# Altium footprint library ISSI SRAM Synchronous SRAM Pipeline.PcbLib: 4 footprints
Each footprint in its own frame and in the unit in brackets; x right, y up, seen from the top. Pads: shape width x height; smd on the part's side, far side on the other; paste and mask are expansions set on the pad; w line width, h text height; cw(c..) or ccw(c..) is an arc to the next point about the centre after c.
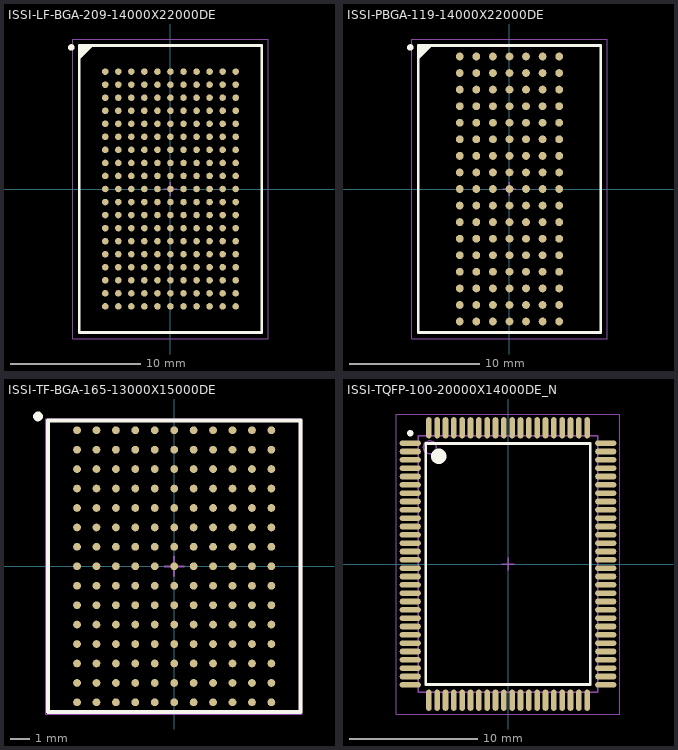
[diagram p0: the footprints below, top view; thin cyan lines are the x and y axes]

## ISSI-LF-BGA-209-14000X22000DE [mm] "BGA, 209-Balls, Body 22x14mm, Pitch 1mm"
height 1.95
pads (209):
  round 0.5 smd: A1(-5,9) A2(-4,9) A3(-3,9) A4(-2,9) A5(-1,9) A6(0,9) A7(1,9) A8(2,9) A9(3,9) A10(4,9) A11(5,9) B1(-5,8) B2(-4,8) B3(-3,8) B4(-2,8) B5(-1,8) B6(0,8) B7(1,8) B8(2,8) B9(3,8) B10(4,8) B11(5,8) C1(-5,7) C2(-4,7) C3(-3,7) C4(-2,7) C5(-1,7) C6(0,7) C7(1,7) C8(2,7) C9(3,7) C10(4,7) C11(5,7) D1(-5,6) D2(-4,6) D3(-3,6) D4(-2,6) D5(-1,6) D6(0,6) D7(1,6) D8(2,6) D9(3,6) D10(4,6) D11(5,6) E1(-5,5) E2(-4,5) E3(-3,5) E4(-2,5) E5(-1,5) E6(0,5) E7(1,5) E8(2,5) E9(3,5) E10(4,5) E11(5,5) F1(-5,4) F2(-4,4) F3(-3,4) F4(-2,4) F5(-1,4) F6(0,4) F7(1,4) F8(2,4) F9(3,4) F10(4,4) F11(5,4) G1(-5,3) G2(-4,3) G3(-3,3) G4(-2,3) G5(-1,3) G6(0,3) G7(1,3) G8(2,3) G9(3,3) G10(4,3) G11(5,3) H1(-5,2) H2(-4,2) H3(-3,2) H4(-2,2) H5(-1,2) H6(0,2) H7(1,2) H8(2,2) H9(3,2) H10(4,2) H11(5,2) J1(-5,1) J2(-4,1) J3(-3,1) J4(-2,1) J5(-1,1) J6(0,1) J7(1,1) J8(2,1) J9(3,1) J10(4,1) J11(5,1) K1(-5,0) K2(-4,0) K3(-3,0) K4(-2,0) K5(-1,0) K6(0,0) K7(1,0) K8(2,0) K9(3,0) K10(4,0) K11(5,0) L1(-5,-1) L2(-4,-1) L3(-3,-1) L4(-2,-1) L5(-1,-1) L6(0,-1) L7(1,-1) L8(2,-1) L9(3,-1) L10(4,-1) L11(5,-1) M1(-5,-2) M2(-4,-2) M3(-3,-2) M4(-2,-2) M5(-1,-2) M6(0,-2) M7(1,-2) M8(2,-2) M9(3,-2) M10(4,-2) M11(5,-2) N1(-5,-3) N2(-4,-3) N3(-3,-3) N4(-2,-3) N5(-1,-3) N6(0,-3) N7(1,-3) N8(2,-3) N9(3,-3) N10(4,-3) N11(5,-3) P1(-5,-4) P2(-4,-4) P3(-3,-4) P4(-2,-4) P5(-1,-4) P6(0,-4) P7(1,-4) P8(2,-4) P9(3,-4) P10(4,-4) P11(5,-4) R1(-5,-5) R2(-4,-5) R3(-3,-5) R4(-2,-5) R5(-1,-5) R6(0,-5) R7(1,-5) R8(2,-5) R9(3,-5) R10(4,-5) R11(5,-5) T1(-5,-6) T2(-4,-6) T3(-3,-6) T4(-2,-6) T5(-1,-6) T6(0,-6) T7(1,-6) T8(2,-6) T9(3,-6) T10(4,-6) T11(5,-6) U1(-5,-7) U2(-4,-7) U3(-3,-7) U4(-2,-7) U5(-1,-7) U6(0,-7) U7(1,-7) U8(2,-7) U9(3,-7) U10(4,-7) U11(5,-7) V1(-5,-8) V2(-4,-8) V3(-3,-8) V4(-2,-8) V5(-1,-8) V6(0,-8) V7(1,-8) V8(2,-8) V9(3,-8) V10(4,-8) V11(5,-8) W1(-5,-9) W2(-4,-9) W3(-3,-9) W4(-2,-9) W5(-1,-9) W6(0,-9) W7(1,-9) W8(2,-9) W9(3,-9) W10(4,-9) W11(5,-9)
Top Overlay:
  circle w0.25: c-7.6,10.85 r0.125
  region: -6,11 -7,10 -7,11
  lines w0.2: -7,10 -6,11 ; -7,-11 -7,11 7,11 7,-11 -7,-11
Mechanical 13:
  lines w0.1: -7,-11 -7,11 7,11 7,-11 -7,-11
Mechanical 15:
  lines w0.05: -7.5,-11.5 -7.5,11.5 7.5,11.5 7.5,-11.5 -7.5,-11.5
  lines w0.1: -0.5,0 0.5,0 ; 0,-0.5 0,0.5
3D body: height 1.95, standoff 0.4, extent -7,-11 7,11

## ISSI-PBGA-119-14000X22000DE [mm] "BGA, 119-Balls, Body 22x14mm, Pitch 1.27mm"
height 3.5
pads (119):
  round 0.6 smd: A1(-3.81,10.16) A2(-2.54,10.16) A3(-1.27,10.16) A4(0,10.16) A5(1.27,10.16) A6(2.54,10.16) A7(3.81,10.16) B1(-3.81,8.89) B2(-2.54,8.89) B3(-1.27,8.89) B4(0,8.89) B5(1.27,8.89) B6(2.54,8.89) B7(3.81,8.89) C1(-3.81,7.62) C2(-2.54,7.62) C3(-1.27,7.62) C4(0,7.62) C5(1.27,7.62) C6(2.54,7.62) C7(3.81,7.62) D1(-3.81,6.35) D2(-2.54,6.35) D3(-1.27,6.35) D4(0,6.35) D5(1.27,6.35) D6(2.54,6.35) D7(3.81,6.35) E1(-3.81,5.08) E2(-2.54,5.08) E3(-1.27,5.08) E4(0,5.08) E5(1.27,5.08) E6(2.54,5.08) E7(3.81,5.08) F1(-3.81,3.81) F2(-2.54,3.81) F3(-1.27,3.81) F4(0,3.81) F5(1.27,3.81) F6(2.54,3.81) F7(3.81,3.81) G1(-3.81,2.54) G2(-2.54,2.54) G3(-1.27,2.54) G4(0,2.54) G5(1.27,2.54) G6(2.54,2.54) G7(3.81,2.54) H1(-3.81,1.27) H2(-2.54,1.27) H3(-1.27,1.27) H4(0,1.27) H5(1.27,1.27) H6(2.54,1.27) H7(3.81,1.27) J1(-3.81,0) J2(-2.54,0) J3(-1.27,0) J4(0,0) J5(1.27,0) J6(2.54,0) J7(3.81,0) K1(-3.81,-1.27) K2(-2.54,-1.27) K3(-1.27,-1.27) K4(0,-1.27) K5(1.27,-1.27) K6(2.54,-1.27) K7(3.81,-1.27) L1(-3.81,-2.54) L2(-2.54,-2.54) L3(-1.27,-2.54) L4(0,-2.54) L5(1.27,-2.54) L6(2.54,-2.54) L7(3.81,-2.54) M1(-3.81,-3.81) M2(-2.54,-3.81) M3(-1.27,-3.81) M4(0,-3.81) M5(1.27,-3.81) M6(2.54,-3.81) M7(3.81,-3.81) N1(-3.81,-5.08) N2(-2.54,-5.08) N3(-1.27,-5.08) N4(0,-5.08) N5(1.27,-5.08) N6(2.54,-5.08) N7(3.81,-5.08) P1(-3.81,-6.35) P2(-2.54,-6.35) P3(-1.27,-6.35) P4(0,-6.35) P5(1.27,-6.35) P6(2.54,-6.35) P7(3.81,-6.35) R1(-3.81,-7.62) R2(-2.54,-7.62) R3(-1.27,-7.62) R4(0,-7.62) R5(1.27,-7.62) R6(2.54,-7.62) R7(3.81,-7.62) T1(-3.81,-8.89) T2(-2.54,-8.89) T3(-1.27,-8.89) T4(0,-8.89) T5(1.27,-8.89) T6(2.54,-8.89) T7(3.81,-8.89) U1(-3.81,-10.16) U2(-2.54,-10.16) U3(-1.27,-10.16) U4(0,-10.16) U5(1.27,-10.16) U6(2.54,-10.16) U7(3.81,-10.16)
Top Overlay:
  circle w0.25: c-7.6,10.85 r0.125
  region: -6,11 -7,10 -7,11
  lines w0.2: -7,10 -6,11 ; -7,-11 -7,11 7,11 7,-11 -7,-11
Mechanical 13:
  lines w0.1: -7,-11 -7,11 7,11 7,-11 -7,-11
Mechanical 15:
  lines w0.05: -7.5,-11.5 -7.5,11.5 7.5,11.5 7.5,-11.5 -7.5,-11.5
  lines w0.1: -0.5,0 0.5,0 ; 0,-0.5 0,0.5
3D body: height 3.5, standoff 0.5, extent -7,-11 7,11

## ISSI-TF-BGA-165-13000X15000DE [mm] "BGA, 165-Balls, Body 15x13mm, Pitch 1mm"
height 1.2
pads (165):
  round 0.4 smd: A1(-5,7) A2(-4,7) A3(-3,7) A4(-2,7) A5(-1,7) A6(0,7) A7(1,7) A8(2,7) A9(3,7) A10(4,7) A11(5,7) B1(-5,6) B2(-4,6) B3(-3,6) B4(-2,6) B5(-1,6) B6(0,6) B7(1,6) B8(2,6) B9(3,6) B10(4,6) B11(5,6) C1(-5,5) C2(-4,5) C3(-3,5) C4(-2,5) C5(-1,5) C6(0,5) C7(1,5) C8(2,5) C9(3,5) C10(4,5) C11(5,5) D1(-5,4) D2(-4,4) D3(-3,4) D4(-2,4) D5(-1,4) D6(0,4) D7(1,4) D8(2,4) D9(3,4) D10(4,4) D11(5,4) E1(-5,3) E2(-4,3) E3(-3,3) E4(-2,3) E5(-1,3) E6(0,3) E7(1,3) E8(2,3) E9(3,3) E10(4,3) E11(5,3) F1(-5,2) F2(-4,2) F3(-3,2) F4(-2,2) F5(-1,2) F6(0,2) F7(1,2) F8(2,2) F9(3,2) F10(4,2) F11(5,2) G1(-5,1) G2(-4,1) G3(-3,1) G4(-2,1) G5(-1,1) G6(0,1) G7(1,1) G8(2,1) G9(3,1) G10(4,1) G11(5,1) H1(-5,0) H2(-4,0) H3(-3,0) H4(-2,0) H5(-1,0) H6(0,0) H7(1,0) H8(2,0) H9(3,0) H10(4,0) H11(5,0) J1(-5,-1) J2(-4,-1) J3(-3,-1) J4(-2,-1) J5(-1,-1) J6(0,-1) J7(1,-1) J8(2,-1) J9(3,-1) J10(4,-1) J11(5,-1) K1(-5,-2) K2(-4,-2) K3(-3,-2) K4(-2,-2) K5(-1,-2) K6(0,-2) K7(1,-2) K8(2,-2) K9(3,-2) K10(4,-2) K11(5,-2) L1(-5,-3) L2(-4,-3) L3(-3,-3) L4(-2,-3) L5(-1,-3) L6(0,-3) L7(1,-3) L8(2,-3) L9(3,-3) L10(4,-3) L11(5,-3) M1(-5,-4) M2(-4,-4) M3(-3,-4) M4(-2,-4) M5(-1,-4) M6(0,-4) M7(1,-4) M8(2,-4) M9(3,-4) M10(4,-4) M11(5,-4) N1(-5,-5) N2(-4,-5) N3(-3,-5) N4(-2,-5) N5(-1,-5) N6(0,-5) N7(1,-5) N8(2,-5) N9(3,-5) N10(4,-5) N11(5,-5) P1(-5,-6) P2(-4,-6) P3(-3,-6) P4(-2,-6) P5(-1,-6) P6(0,-6) P7(1,-6) P8(2,-6) P9(3,-6) P10(4,-6) P11(5,-6) R1(-5,-7) R2(-4,-7) R3(-3,-7) R4(-2,-7) R5(-1,-7) R6(0,-7) R7(1,-7) R8(2,-7) R9(3,-7) R10(4,-7) R11(5,-7)
Top Overlay:
  circle w0.25: c-7.01,7.71 r0.125
  lines w0.2: -6.5,-7.5 -6.5,7.5 6.5,7.5 6.5,-7.5 -6.5,-7.5
Mechanical 13:
  lines w0.1: -6.5,-7.5 6.5,-7.5 6.5,7.5 -6.5,7.5 -6.5,-7.5
Mechanical 15:
  lines w0.05: -6.6,-7.6 6.6,-7.6 6.6,7.6 -6.6,7.6 -6.6,-7.6
  lines w0.1: -0.5,0 0.5,0 ; 0,-0.5 0,0.5
3D body: height 1.2, standoff 0.25, extent -6.5,-7.5 6.5,7.5

## ISSI-TQFP-100-20000X14000DE_N [mm] "QFP, 100-Leads, Body 20x14mm, Pitch 0.65mm, IPC Medium Density"
height 1.45
pads (100):
  oval 1.65x0.45 smd: 1(-7.625,9.425) 2(-7.625,8.775) 3(-7.625,8.125) 4(-7.625,7.475) 5(-7.625,6.825) 6(-7.625,6.175) 7(-7.625,5.525) 8(-7.625,4.875) 9(-7.625,4.225) 10(-7.625,3.575) 11(-7.625,2.925) 12(-7.625,2.275) 13(-7.625,1.625) 14(-7.625,0.975) 15(-7.625,0.325) 16(-7.625,-0.325) 17(-7.625,-0.975) 18(-7.625,-1.625) 19(-7.625,-2.275) 20(-7.625,-2.925) 21(-7.625,-3.575) 22(-7.625,-4.225) 23(-7.625,-4.875) 24(-7.625,-5.525) 25(-7.625,-6.175) 26(-7.625,-6.825) 27(-7.625,-7.475) 28(-7.625,-8.125) 29(-7.625,-8.775) 30(-7.625,-9.425) 51(7.625,-9.425) 52(7.625,-8.775) 53(7.625,-8.125) 54(7.625,-7.475) 55(7.625,-6.825) 56(7.625,-6.175) 57(7.625,-5.525) 58(7.625,-4.875) 59(7.625,-4.225) 60(7.625,-3.575) 61(7.625,-2.925) 62(7.625,-2.275) 63(7.625,-1.625) 64(7.625,-0.975) 65(7.625,-0.325) 66(7.625,0.325) 67(7.625,0.975) 68(7.625,1.625) 69(7.625,2.275) 70(7.625,2.925) 71(7.625,3.575) 72(7.625,4.225) 73(7.625,4.875) 74(7.625,5.525) 75(7.625,6.175) 76(7.625,6.825) 77(7.625,7.475) 78(7.625,8.125) 79(7.625,8.775) 80(7.625,9.425)
  oval 0.45x1.65 smd: 31(-6.175,-10.625) 32(-5.525,-10.625) 33(-4.875,-10.625) 34(-4.225,-10.625) 35(-3.575,-10.625) 36(-2.925,-10.625) 37(-2.275,-10.625) 38(-1.625,-10.625) 39(-0.975,-10.625) 40(-0.325,-10.625) 41(0.325,-10.625) 42(0.975,-10.625) 43(1.625,-10.625) 44(2.275,-10.625) 45(2.925,-10.625) 46(3.575,-10.625) 47(4.225,-10.625) 48(4.875,-10.625) 49(5.525,-10.625) 50(6.175,-10.625) 81(6.175,10.625) 82(5.525,10.625) 83(4.875,10.625) 84(4.225,10.625) 85(3.575,10.625) 86(2.925,10.625) 87(2.275,10.625) 88(1.625,10.625) 89(0.975,10.625) 90(0.325,10.625) 91(-0.325,10.625) 92(-0.975,10.625) 93(-1.625,10.625) 94(-2.275,10.625) 95(-2.925,10.625) 96(-3.575,10.625) 97(-4.225,10.625) 98(-4.875,10.625) 99(-5.525,10.625) 100(-6.175,10.625)
Top Overlay:
  circle w0.25: c-7.625,10.2 r0.125
  circle w0.6: c-5.4,8.4 r0.3
  lines w0.2: -6.4,-9.4 -6.4,9.4 6.4,9.4 6.4,-9.4 -6.4,-9.4
Mechanical 13:
  circle w0.1: c-6.1,9.1 r0.5
  lines w0.1: -7,-10 -7,10 7,10 7,-10 -7,-10
Mechanical 15:
  lines w0.05: -8.7,-11.7 -8.7,11.7 8.7,11.7 8.7,-11.7 -8.7,-11.7
  lines w0.1: -0.5,0 0.5,0 ; 0,-0.5 0,0.5
3D body: height 1.45, standoff 0.05, extent -7,-10 7,10